# Altium schematic symbol library R1SE-0505-R.SchLib: 1 symbol
Pins are listed as number, name and electrical type; pins without a type are passive.

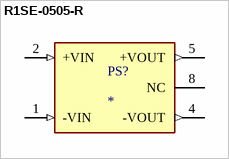
[diagram p0: symbol R1SE-0505-R]

## R1SE-0505-R
designator PS?
1W DC/DC-Converter 'ECONOLINE' SMD 1kV unreg; MF: Recom Power; MP: R1SE-0505-R; SnapEDA_Link: https://www.snapeda.com/parts/R1SE-0505-R/Recom+Power/view-part/?ref=snap; Package: None; Value: *; Check_prices: https://www.snapeda.com/parts/R1SE-0505-R/Recom+Power/view-part/?ref=eda
footprint CONV_R1SE-0505-R
pins: 1 -VIN (in), 2 +VIN (in), 4 -VOUT (out), 5 +VOUT (out), 8 NC